# Altium footprint library Toygether_PcbLib.PcbLib: 44 footprints (part 1 of 3)
Each footprint in its own frame and in the unit in brackets; x right, y up, seen from the top. Pads: shape width x height; smd on the part's side, far side on the other; paste and mask are expansions set on the pad; w line width, h text height; cw(c..) or ccw(c..) is an arc to the next point about the centre after c.
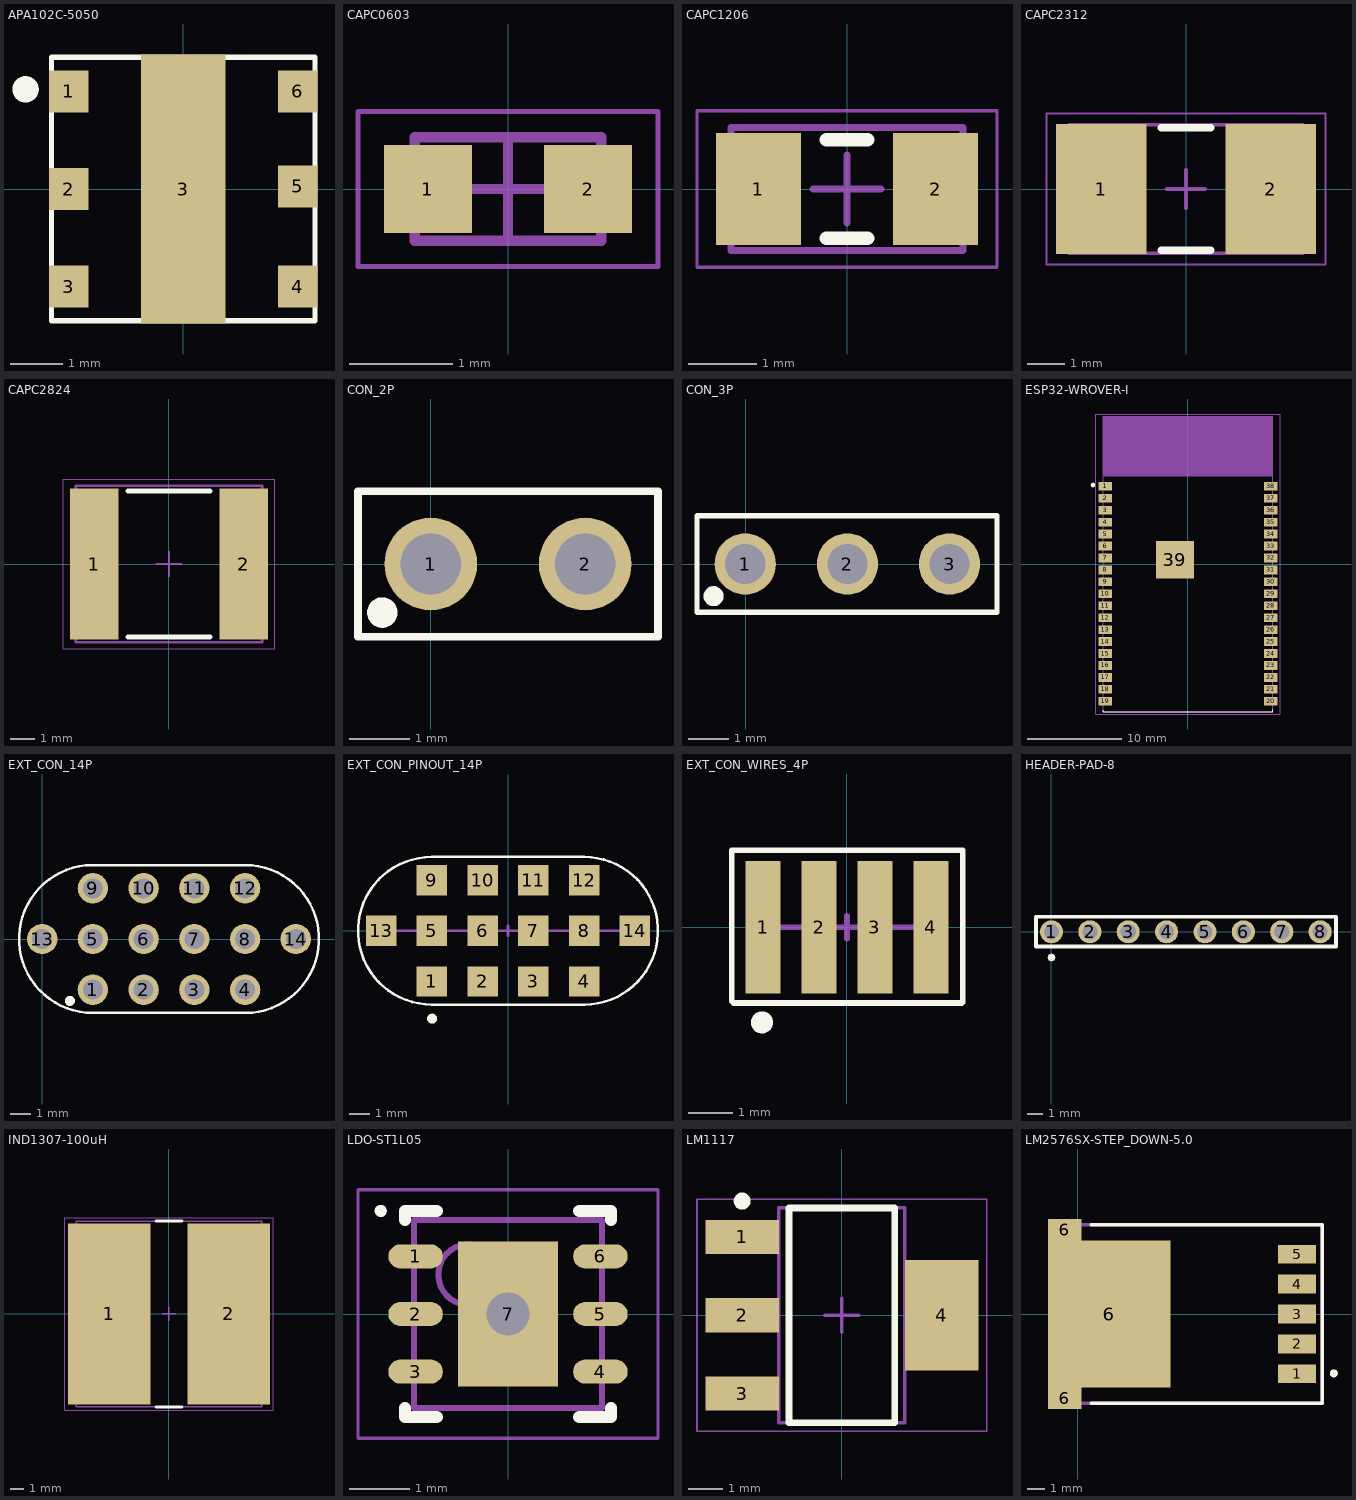
[diagram p0: the footprints below, top view; thin cyan lines are the x and y axes]

## APA102C-5050 [mm]
height 1.4
pads (7):
  rect 0.75x0.8 smd: 1(-2.175,1.85) 2(-2.175,0) 3(-2.175,-1.85) 4(2.175,-1.85) 5(2.175,0.05) 6(2.175,1.85)
  rect 1.6x5.1 smd: 3(0,0)
Top Overlay:
  circle w0.25: c-2.99,1.89 r0.125
  lines w0.1: -2.5,-2.5 -2.5,2.5 2.5,2.5 2.5,-2.5 -2.5,-2.5

## CAPC0603 [mm] "Chip Capacitor, 2-Leads, Body 1,60x0,80mm, IPC Medium Density"
height 1
pads (2):
  rect 0.85x0.85 smd: 1(-0.775,0) 2(0.775,0)
Mechanical 13:
  lines w0.1: -0.9,-0.5 -0.9,0.5 0.9,0.5 0.9,-0.5 -0.9,-0.5
Mechanical 15:
  lines w0.05: -1.45,-0.75 -1.45,0.75 1.45,0.75 1.45,-0.75 -1.45,-0.75
  lines w0.1: -0.5,0 0.5,0 ; 0,-0.5 0,0.5
3D body "CAPC0603.step": height 1, standoff 0, extent -0.9,-0.5 0.9,0.5

## CAPC1206 [mm] "Chip Capacitor, 2-Leads, Body 3.20x1.60mm, IPC Medium Density"
height 1.8
pads (2):
  rect 1.25x1.65 smd: 1(-1.3,0) 2(1.3,0)
Top Overlay:
  lines w0.2: -0.3,-0.725 0.3,-0.725 ; -0.3,0.725 0.3,0.725
Mechanical 13:
  lines w0.1: -1.7,-0.9 -1.7,0.9 1.7,0.9 1.7,-0.9 -1.7,-0.9
Mechanical 15:
  lines w0.05: -2.2,-1.15 -2.2,1.15 2.2,1.15 2.2,-1.15 -2.2,-1.15
  lines w0.1: -0.5,0 0.5,0 ; 0,-0.5 0,0.5
3D body "CAPC1206.step": height 1.8, standoff 0, extent -1.7,-0.9 1.7,0.9

## CAPC2312 [mm] "Chip Capacitor, 2-Leads, Body 6.00x3.25mm, IPC Medium Density"
height 2
pads (2):
  rect 2.4x3.45 smd: 1(-2.25,0) 2(2.25,0)
Top Overlay:
  lines w0.2: -0.65,-1.625 0.65,-1.625 ; -0.65,1.625 0.65,1.625
Mechanical 13:
  lines w0.1: -3.1,-1.7 3.1,-1.7 3.1,1.7 -3.1,1.7 -3.1,-1.7
Mechanical 15:
  lines w0.05: -3.7,-2 3.7,-2 3.7,2 -3.7,2 -3.7,-2
  lines w0.1: -0.5,0 0.5,0 ; 0,-0.5 0,0.5
3D body "CAPC2312.step": height 2, standoff 0, extent -3.1,-1.7 3.1,1.7

## CAPC2824 [mm] "Chip Capacitor, 2-Leads, Body 7.20x6.00mm, IPC Medium Density"
height 2
pads (2):
  rect 1.95x6.05 smd: 1(-3,0) 2(3,0)
Top Overlay:
  lines w0.2: -1.65,-2.925 1.65,-2.925 ; -1.65,2.925 1.65,2.925
Mechanical 13:
  lines w0.1: -3.75,-3.15 -3.75,3.15 3.75,3.15 3.75,-3.15 -3.75,-3.15
Mechanical 15:
  lines w0.05: -4.25,-3.4 -4.25,3.4 4.25,3.4 4.25,-3.4 -4.25,-3.4
  lines w0.1: -0.5,0 0.5,0 ; 0,-0.5 0,0.5
3D body "CAPC2824.step": height 2, standoff 0, extent -3.75,-3.15 3.75,3.15

## CON_2P [mil]
pads (2):
  round 60 hole 39.37: 1(0,0) 2(100,0)
Top Overlay:
  circle w9.84: c-31.5,-31.5 r4.92
  lines w5: -47.24,-47.24 147.24,-47.24 147.24,47.24 -47.24,47.24 -47.24,-47.24

## CON_3P [mm]
pads (3):
  round 1.524 hole 1: 1(-0.01,0) 2(2.53,0) 3(5.07,0)
Top Overlay:
  circle w0.25: c-0.8,-0.8 r0.125
  lines w0.127: -1.21,-1.2 6.25,-1.2 6.25,1.2 -1.21,1.2 -1.21,-1.2

## ESP32-WROVER-I [mm] "SMD, 38-Leads, Body 18x25.5mm, Pitch 1.27mm"
height 3.25
pads (39):
  rect 1.45x0.93 smd: 1(-8.81,8.26) 2(-8.81,6.99) 3(-8.81,5.72) 4(-8.81,4.45) 5(-8.81,3.18) 6(-8.81,1.91) 7(-8.81,0.64) 8(-8.81,-0.63) 9(-8.81,-1.9) 10(-8.81,-3.17) 11(-8.81,-4.44) 12(-8.81,-5.71) 13(-8.81,-6.98) 14(-8.81,-8.25) 15(-8.81,-9.52) 16(-8.81,-10.79) 17(-8.81,-12.06) 18(-8.81,-13.33) 19(-8.81,-14.6) 20(8.81,-14.6) 21(8.81,-13.33) 22(8.81,-12.06) 23(8.81,-10.79) 24(8.81,-9.52) 25(8.81,-8.25) 26(8.81,-6.98) 27(8.81,-5.71) 28(8.81,-4.44) 29(8.81,-3.17) 30(8.81,-1.9) 31(8.81,-0.63) 32(8.81,0.64) 33(8.81,1.91) 34(8.81,3.18) 35(8.81,4.45) 36(8.81,5.72) 37(8.81,6.99) 38(8.81,8.26)
  rect 4x4 smd: 39(-1.38,0.47)
Top Overlay:
  circle w0.24: c-10.1,8.4 r0.12
  lines w0.127: -9,-15.55 -9,-15.7 9,-15.7 9,-15.5
Top Paste:
  region: -2.648,1.735 -0.115,1.735 -0.115,-0.796 -2.648,-0.796
Mechanical 4:
  region: -9.023,15.7 9,15.7 9,9.324 -9.023,9.324
  lines w0.127: -9,-15.7 -9,15.7 ; -9,-15.7 9,-15.7 ; -9,-15.7 -9,15.7 ; -9,-15.7 9,-15.7 ; -9,15.7 9,15.7 9,-15.7
Mechanical 16:
  lines w0.05: -9.8,-15.95 -9.8,15.95 9.8,15.95 9.8,-15.95 -9.8,-15.95

## EXT_CON_14P [mil]
pads (14):
  round 60 hole 39.37: 1(100,-100) 2(200,-100) 3(300,-100) 4(400,-100) 5(100,0) 6(200,0) 7(300,0) 8(400,0) 9(100,100) 10(200,100) 11(300,100) 12(400,100) 13(0,0) 14(500,0)
Top Overlay:
  circle w9.84: c54.72,-122.05 r4.92
  lines w5: 100,-145.67 cw(c100,0) 98.82,145.67 400,145.67 cw(c400,0) 401.18,-145.67 101.57,-145.67

## EXT_CON_PINOUT_14P [mil]
pads (14):
  rect 60x60 smd: 1(-150,-100) 2(-50,-100) 3(50,-100) 4(150,-100) 5(-150,0) 6(-50,0) 7(50,0) 8(150,0) 9(-150,100) 10(-50,100) 11(50,100) 12(150,100) 13(-250,0) 14(250,0)
Top Overlay:
  circle w9.84: c-149.61,-173.23 r4.92
  lines w5: -150,-145.67 cw(c-150,0) -150,145.67 150,145.67 cw(c150,0) 151.18,-145.67 -150,-145.67
Mechanical 1:
  lines w5: -250,0 250,0 ; 0,-10.24 0,0 0,10.24

## EXT_CON_WIRES_4P [mm]
pads (4):
  rect 0.8x3 smd: 1(-1.905,0) 2(-0.635,0) 3(0.635,0) 4(1.905,0)
Top Overlay:
  circle w0.25: c-1.93,-2.16 r0.125
  lines w0.127: -2.615,-1.68 -2.575,-1.72 2.605,-1.72 2.625,-1.7 2.625,1.75 -2.615,1.75 -2.615,-1.68
Mechanical 1:
  lines w0.127: -1.905,0 1.905,0 ; 0,-0.26 0,0 0,0.26

## HEADER-PAD-8 [mil]
pads (9):
  round 60 hole 39.37: 1(0,0) 2(100,0) 3(200,0) 4(300,0) 5(400,0) 6(500,0) 7(600,0) 8(700,0)
  round 20 on Top Overlay: ""(0,-66.93)
Top Overlay:
  lines w10: -40.31,39.37 -40.31,19.68 -40.31,-19.68 -40.31,-38.43 741.34,-38.43 ; -39.37,39.37 127.46,39.37 363.96,39.37 740.94,39.37 ; 739.37,39.37 740.94,39.37 ; 740.94,39.37 740.94,-38.43 741.34,-38.43 ; 741.34,-38.43 739.37,-38.43 741.34,-38.43

## IND1307-100uH [mm] "Precision Wire Wound Inductor, 2-Leads, Body 13.00x13.00mm, IPC Medium Density"
height 7.3
pads (2):
  rect 6.1x13.3 smd: 1(-4.4,0) 2(4.4,0)
Top Overlay:
  lines w0.2: -0.95,-6.85 0.95,-6.85 ; -0.95,6.85 0.95,6.85
Mechanical 13:
  lines w0.1: -6.85,-6.85 6.85,-6.85 6.85,6.85 -6.85,6.85 -6.85,-6.85
Mechanical 15:
  lines w0.05: -7.675,-7.1 7.675,-7.1 7.675,7.1 -7.675,7.1 -7.675,-7.1
  lines w0.1: -0.5,0 0.5,0 ; 0,-0.5 0,0.5
3D body "IND1307-100uH.step": height 7.4, standoff 0, extent -6.6,-6.5 6.6,6.5

## LDO-ST1L05 [mm] "SON, 6-Leads, Body 3x3mm, Pitch 0.95mm, Thermal Pad 2.4x1.65mm, IPC Low Density"
height 0.95
pads (7):
  oval 0.9x0.4 smd: 1(-1.525,0.95) 2(-1.525,0) 3(-1.525,-0.95) 4(1.525,-0.95) 5(1.525,0) 6(1.525,0.95)
  rect 1.65x2.4 smd: 7(0,0)
via 0,0 diameter 1.27 hole 0.711
Top Overlay:
  circle w0.1: c-2.1,1.7 r0.05
  lines w0.2: -1.7,-1.55 -1.7,-1.7 -1.175,-1.7 ; -1.7,1.55 -1.7,1.7 -1.175,1.7 ; 1.175,-1.7 1.7,-1.7 1.7,-1.55 ; 1.175,1.7 1.7,1.7 1.7,1.55
Mechanical 13:
  circle w0.1: c-0.65,0.65 r0.5
  lines w0.1: -1.55,-1.55 1.55,-1.55 1.55,1.55 -1.55,1.55 -1.55,-1.55
Mechanical 15:
  lines w0.05: -2.475,-2.05 2.475,-2.05 2.475,2.05 -2.475,2.05 -2.475,-2.05
  lines w0.1: -0.5,0 0.5,0 ; 0,-0.5 0,0.5
3D body: height 0.95, standoff 0, extent -1.55,-1.55 1.55,1.55

## LM1117 [mm] "SOT223, 4-Leads, Body 6,50x7,00mm (avg), Pitch 2,30mm, IPC Medium Density"
height 1.8
pads (4):
  rect 2.15x1 smd: 1(-2.925,2.3) 2(-2.925,0) 3(-2.925,-2.3)
  rect 2.15x3.25 smd: 4(2.925,0)
Top Overlay:
  circle w0.25: c-2.925,3.35 r0.125
  lines w0.2: -1.55,-3.15 1.55,-3.15 1.55,3.15 -1.55,3.15 -1.55,-3.15
Mechanical 13:
  lines w0.1: -1.85,-3.15 1.85,-3.15 1.85,3.15 -1.85,3.15 -1.85,-3.15
Mechanical 15:
  lines w0.05: -4.25,-3.4 4.25,-3.4 4.25,3.4 -4.25,3.4 -4.25,-3.4
  lines w0.1: -0.5,0 0.5,0 ; 0,-0.5 0,0.5
3D body "SOT230P700X180-4N.step": height 1.8, standoff 0, extent -3.5,-3.15 3.5,3.15

## LM2576SX-STEP_DOWN-5.0 [mm]
height 4.7
pads (8):
  rect 2.16x1.07 smd: 1(12.461,-3.4) 2(12.461,-1.7) 3(12.461,0) 4(12.461,1.7) 5(12.461,3.4)
  rect 1.91x1.235 smd: 6(-0.754,-4.782) 6(-0.754,4.782)
  rect 6.99x8.33 smd: 6(1.786,0)
Top Overlay:
  circle w0.2: c14.551,-3.375 r0.126
  lines w0.2: 0.756,-5.08 13.9,-5.08 13.9,5.08 0.756,5.08
Mechanical 15:
  lines w0.2: 0,-5.08 13.9,-5.08 13.9,5.08 0,5.08 0,-5.08